# Altium schematic symbol library MB0008A.01.A.1.SchLib: 1 symbol
Pins are listed as number, name and electrical type; pins without a type are passive.

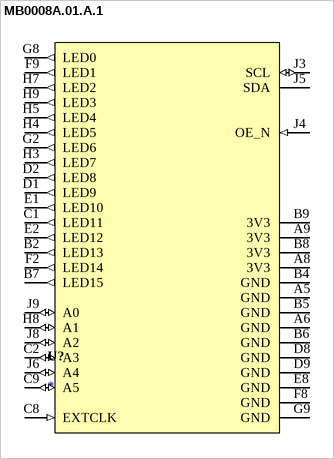
[diagram p0: symbol MB0008A.01.A.1]

## MB0008A.01.A.1
designator U?
pins: A5 GND (power), A6 GND (power), A8 3V3 (power), A9 3V3 (power), B2 LED13 (out), B4 GND (power), B5 GND (power), B6 GND (power), B7 LED15 (out), B8 3V3 (power), B9 3V3 (power), C1 LED11 (out), C2 A3 (io), C8 EXTCLK (in), C9 A5 (io), D1 LED9 (out), D2 LED8 (out), D8 GND (power), D9 GND (power), E1 LED10 (out), E2 LED12 (out), E8 GND (power), F2 LED14 (out), F8 GND (power), F9 LED1 (out), G2 LED6 (out), G8 LED0 (out), G9 GND (power), H3 LED7 (out), H4 LED5 (out), H5 LED4 (out), H7 LED2 (out), H8 A1 (io), H9 LED3 (out), J3 SCL (io), J4 OE_N (in), J5 SDA, J6 A4 (io), J8 A2 (io), J9 A0 (io)